# EAGLE library part ADG888 (library analog-devices)
Dual DPDT Analog Switch 0.4 Ohm, 1.5 V to 5.5 V
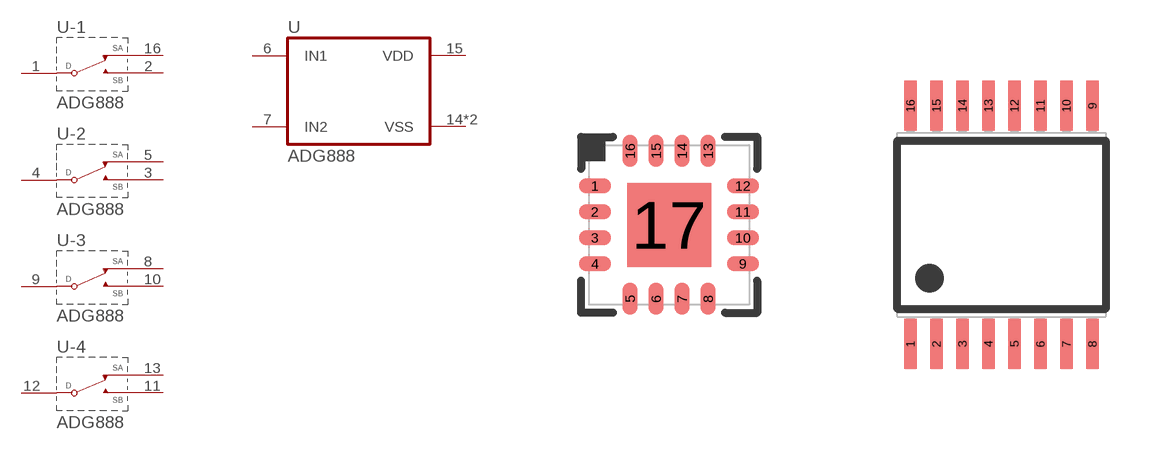
[diagram p88: symbol with the pads of LFCSP16_WQ; footprints LFCSP16_WQ, TSSOP16]

Designator prefix U; gates G$1=ADG888 -1=ADG-SPDT -2=ADG-SPDT -3=ADG-SPDT -4=ADG-SPDT

## ADG888CP  [LFCSP16_WQ]
1  -1:D  pas
2  -1:SB  pas
3  -2:SB  pas
4  -2:D  pas
5  -2:SA  pas
6  G$1:IN1  in
7  G$1:IN2  in
8  -3:SA  pas
9  -3:D  pas
10  -3:SB  pas
11  -4:SB  pas
12  -4:D  pas
13  -4:SA  pas
14  G$1:VSS  pwr
15  G$1:VDD  pwr
16  -1:SA  pas
17  G$1:VSS  pwr

## ADG888RU  [TSSOP16]
1  G$1:VDD  pwr
2  -1:SA  pas
3  -1:D  pas
4  -1:SB  pas
5  -2:SB  pas
6  -2:D  pas
7  -2:SA  pas
8  G$1:IN1  in
9  G$1:IN2  in
10  -3:SA  pas
11  -3:D  pas
12  -3:SB  pas
13  -4:SB  pas
14  -4:D  pas
15  -4:SA  pas
16  G$1:VSS  pwr

## Footprint LFCSP16_WQ (pad centres in mm)
16-Lead Lead Frame Chip Scale Package 4 mm × 4 mm Body, Very Very Thin Quad (CP-16-23)
smd 0.8 x 0.36: 1 -1.85,0.975; 2 -1.85,0.325; 3 -1.85,-0.325; 4 -1.85,-0.975; 9 1.85,-0.975; 10 1.85,-0.325; 11 1.85,0.325; 12 1.85,0.975
smd 0.36 x 0.8: 5 -0.975,-1.85; 6 -0.325,-1.85; 7 0.325,-1.85; 8 0.975,-1.85; 13 0.975,1.85; 14 0.325,1.85; 15 -0.325,1.85; 16 -0.975,1.85
smd 2.1 x 2.1: 17 0,0

## Footprint TSSOP16 (pad centres in mm)
Thin Shrink Small Outline Plastic 16
smd 0.31 x 1.25: 1 -2.275,-2.98; 2 -1.625,-2.98; 3 -0.975,-2.98; 4 -0.325,-2.98; 5 0.325,-2.98; 6 0.975,-2.98; 7 1.625,-2.98; 8 2.275,-2.98; 9 2.275,2.98; 10 1.625,2.98; 11 0.975,2.98; 12 0.325,2.98; 13 -0.325,2.98; 14 -0.975,2.98; 15 -1.625,2.98; 16 -2.275,2.98